# EAGLE library part W5500 (library W5500)
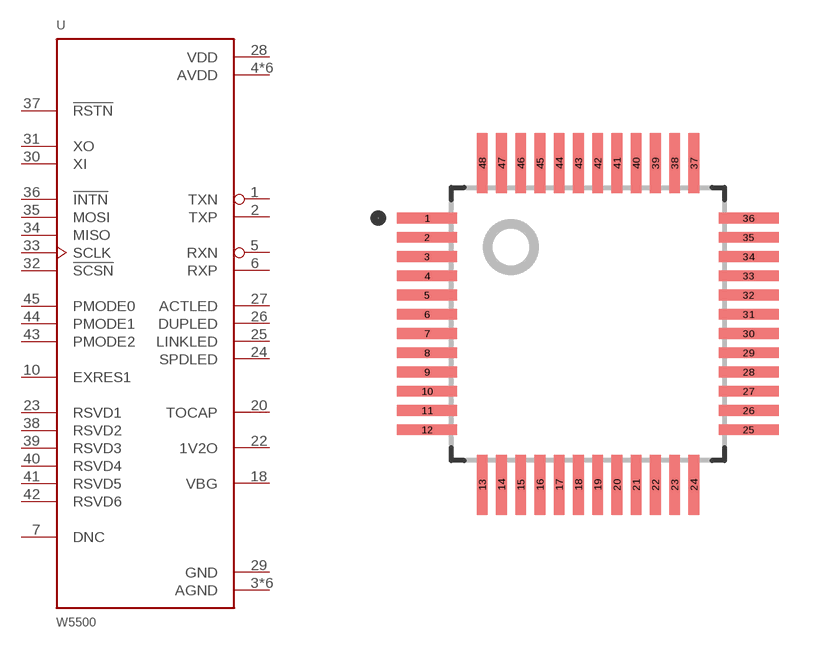
[diagram p0: symbol with the pads of QFP50P900X900X160-48N; footprint QFP50P900X900X160-48N]

Designator prefix U

## W5500 (AVAILABILITY: Bad; DESCRIPTION: Victor Pure White Collection Wood Tidy Tower Organizer; MF: WIZnet; MP: W5500; PACKAGE: LQFP-48 Victor Technologies; PRICE: 90.48 USD; STANDARD: IPC-7351B)  [QFP50P900X900X160-48N]
1  TXN  out
2  TXP  out
3  AGND  pwr
4  AVDD  pwr
5  RXN  in
6  RXP  in
7  DNC
8  AVDD  pwr
9  AGND  pwr
10  EXRES1
11  AVDD  pwr
14  AGND  pwr
15  AVDD  pwr
16  AGND  pwr
17  AVDD  pwr
18  VBG  out
19  AGND  pwr
20  TOCAP  out
21  AVDD  pwr
22  1V2O  out
23  RSVD1  in
24  SPDLED  out
25  LINKLED  out
26  DUPLED  out
27  ACTLED  out
28  VDD  pwr
29  GND  pas
30  XI  in
31  XO  out
32  !SCSN  in
33  SCLK  in
34  MISO  out
35  MOSI  in
36  !INTN  in
37  !RSTN  in
38  RSVD2  in
39  RSVD3  in
40  RSVD4  in
41  RSVD5  in
42  RSVD6  in
43  PMODE2  in
44  PMODE1  in
45  PMODE0  in
48  AGND  pwr

## Footprint QFP50P900X900X160-48N (pad centres in mm)
smd 1.56 x 0.28: 1 -4.18,2.75; 2 -4.18,2.25; 3 -4.18,1.75; 4 -4.18,1.25; 5 -4.18,0.75; 6 -4.18,0.25; 7 -4.18,-0.25; 8 -4.18,-0.75; 9 -4.18,-1.25; 10 -4.18,-1.75; 11 -4.18,-2.25; 12 -4.18,-2.75; 25 4.18,-2.75; 26 4.18,-2.25; 27 4.18,-1.75; 28 4.18,-1.25; 29 4.18,-0.75; 30 4.18,-0.25; 31 4.18,0.25; 32 4.18,0.75; 33 4.18,1.25; 34 4.18,1.75; 35 4.18,2.25; 36 4.18,2.75
smd 0.28 x 1.56: 13 -2.75,-4.18; 14 -2.25,-4.18; 15 -1.75,-4.18; 16 -1.25,-4.18; 17 -0.75,-4.18; 18 -0.25,-4.18; 19 0.25,-4.18; 20 0.75,-4.18; 21 1.25,-4.18; 22 1.75,-4.18; 23 2.25,-4.18; 24 2.75,-4.18; 37 2.75,4.18; 38 2.25,4.18; 39 1.75,4.18; 40 1.25,4.18; 41 0.75,4.18; 42 0.25,4.18; 43 -0.25,4.18; 44 -0.75,4.18; 45 -1.25,4.18; 46 -1.75,4.18; 47 -2.25,4.18; 48 -2.75,4.18